# Altium integrated library ATK-CLMP135-CORE-V1.0.IntLib: 16 symbols
Pins are listed as number, name and electrical type; pins without a type are passive.

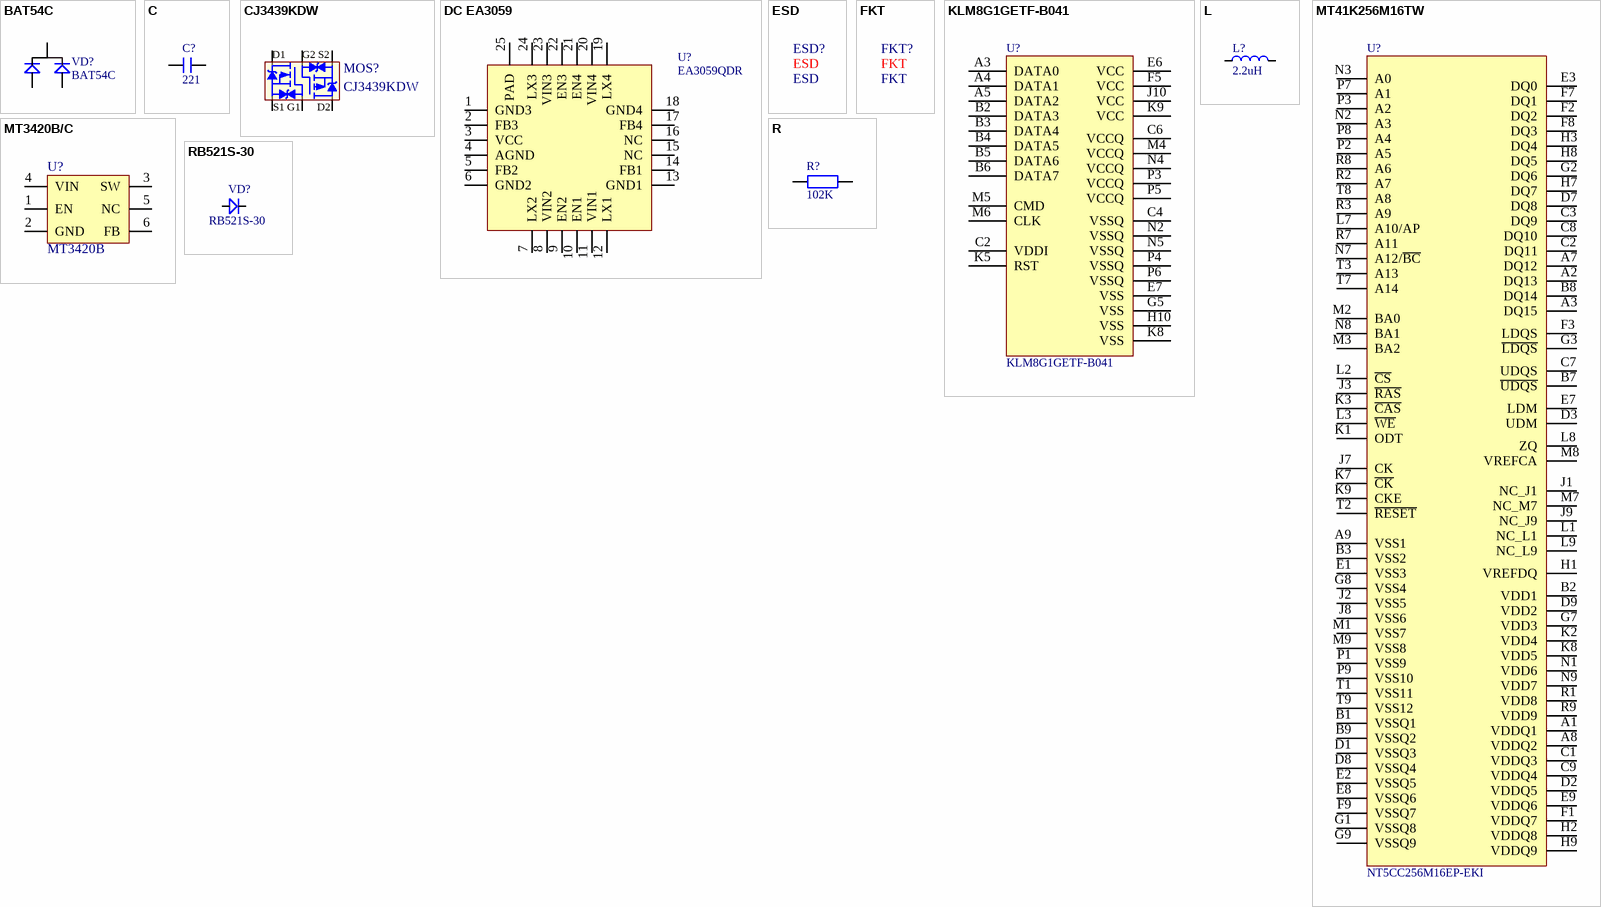
[diagram p0: symbols BAT54C to RB521S-30]

## BAT54C
designator VD?
肖特基二极管（双）
footprint SOT23-3L (3x1.3x1mm(长宽高))
pins: 1, 2, 3

## C
designator C?, comment 221
无极性贴片电容; 版权归属: 正点原子; BOM名称: 无极性贴片电容; 学习资源: www.openedv.com
footprint C 0402 (无极性贴片电容)
footprint C 0603 (无极性贴片电容)
pins: 1, 2

## CJ3439KDW
designator MOS?
P+N  ±20V +0.45A 0.8Ω@1.8V -0.5A 0.95Ω@-1.8V; BOM名称: MOS管; 版权归属: 正点原子; 学习资源: www.openedv.com
footprint SOT363-6L (2.0x2.1x1.1mm(长宽高))
pins: 1 S1, 2 G1, 3 D2, 4 S2, 5 G2, 6 D1

## DC EA3059
designator U?, comment EA3059QDR
DC降压芯片
footprint QFN24 4X4_L (QFN, 24-Leads, Body 4.1x4.1mm (max), Pitch 0.50mm, IPC Medium Density)
pins: 1 GND3, 2 FB3, 3 VCC, 4 AGND, 5 FB2, 6 GND2, 7 LX2, 8 VIN2, 9 EN2, 10 EN1, 11 VIN1, 12 LX1, 13 GND1, 14 FB1, 15 NC, 16 NC, 17 FB4, 18 GND4, 19 LX4, 20 VIN4, 21 EN4, 22 EN3, 23 VIN3, 24 LX3, 25 PAD

## ESD
designator ESD?
防静电; BOM名称: 散热片; 版权归属: 正点原子; 学习资源: www.openedv.com
footprint ESD

## FKT
designator FKT?
可回收; BOM名称: 散热片; 版权归属: 正点原子; 学习资源: www.openedv.com
footprint FKT

## KLM8G1GETF-B041
designator U?
8GB EMMC存储芯片
footprint BGA153  EMMC (BGA, 153-Leads, Body 13.0x11.5mm,  Pitch 0.50mm)
pins: A3 DATA0, A4 DATA1, A5 DATA2, B2 DATA3, B3 DATA4, B4 DATA5, B5 DATA6, B6 DATA7, C2 VDDI, C4 VSSQ, C6 VCCQ, E6 VCC, E7 VSS, F5 VCC, G5 VSS, H10 VSS, J10 VCC, K5 RST, K8 VSS, K9 VCC, M4 VCCQ, M5 CMD, M6 CLK, N2 VSSQ, N4 VCCQ, N5 VSSQ, P3 VCCQ, P4 VSSQ, P5 VCCQ, P6 VSSQ

## L
designator L?, comment 2.2uH
小功率贴片电感磁珠; 版权归属: 正点原子; BOM名称: 小功率贴片电感; 学习资源: www.openedv.com
footprint L_2520
pins: 1, 2

## MT41K256M16TW
designator U?, comment NT5CC256M16EP-EKI
footprint BGA96 (BGA, 96-Leads, Body 8.00x14.00mmx1.20mm, Pitch 0.80mm)
pins: A1 VDDQ1, A2 DQ13, A3 DQ15, A7 DQ12, A8 VDDQ2, A9 VSS1, B1 VSSQ1, B2 VDD1, B3 VSS2, B7 ~{UDQS}, B8 DQ14, B9 VSSQ2, C1 VDDQ3, C2 DQ11, C3 DQ9, C7 UDQS, C8 DQ10, C9 VDDQ4, D1 VSSQ3, D2 VDDQ5, D3 UDM, D7 DQ8, D8 VSSQ4, D9 VDD2, E1 VSS3, E2 VSSQ5, E3 DQ0, E7 LDM, E8 VSSQ6, E9 VDDQ6, F1 VDDQ7, F2 DQ2, F3 LDQS, F7 DQ1, F8 DQ3, F9 VSSQ7, G1 VSSQ8, G2 DQ6, G3 ~{LDQS}, G7 VDD3, G8 VSS4, G9 VSSQ9, H1 VREFDQ, H2 VDDQ8, H3 DQ4, H7 DQ7, H8 DQ5, H9 VDDQ9, J1 NC_J1, J2 VSS5, J3 ~{RAS}, J7 CK, J8 VSS6, J9 NC_J9, K1 ODT, K2 VDD4, K3 ~{CAS}, K7 ~{CK}, K8 VDD5, K9 CKE, L1 NC_L1, L2 ~{CS}, L3 ~{WE}, L7 A10/AP, L8 ZQ, L9 NC_L9, M1 VSS7, M2 BA0, M3 BA2, M7 NC_M7, M8 VREFCA, M9 VSS8, N1 VDD6, N2 A3, N3 A0, N7 A12/~{BC}, N8 BA1, N9 VDD7, P1 VSS9, P2 A5, P3 A2, P7 A1, P8 A4, P9 VSS10, R1 VDD8, R2 A7, R3 A9, R7 A11, R8 A6, R9 VDD9, T1 VSS11, T2 ~{RESET}, T3 A13, T7 A14, T8 A8, T9 VSS12

## MT3420B/C
designator U?, comment MT3420B
同步降压 2.3-6V 2A 1.5MHz Vr=0.6V; 版权归属: 正点原子; BOM名称: 芯片; 学习资源: www.openedv.com
footprint SOT23-6L (3x1.6x1.1mm(长宽高))
pins: 1 EN, 2 GND, 3 SW, 4 VIN, 5 NC, 6 FB

## R
designator R?, comment 102K
贴片电阻; 版权归属: 正点原子; BOM名称: 贴片电阻; 学习资源: www.openedv.com
footprint R 0402 (1/16W贴片电阻)
footprint R 0603 (1/10W贴片电阻)
pins: 1, 2

## RB521S-30
designator VD?
SOD123封装二极管; BOM名称: 高速开关二极管; 版权归属: 正点原子; 学习资源: www.openedv.com
footprint SOD-523 (1.2x0.8X0.6mm（长宽高，不包括引脚）)
pins: 1 A, 2 K

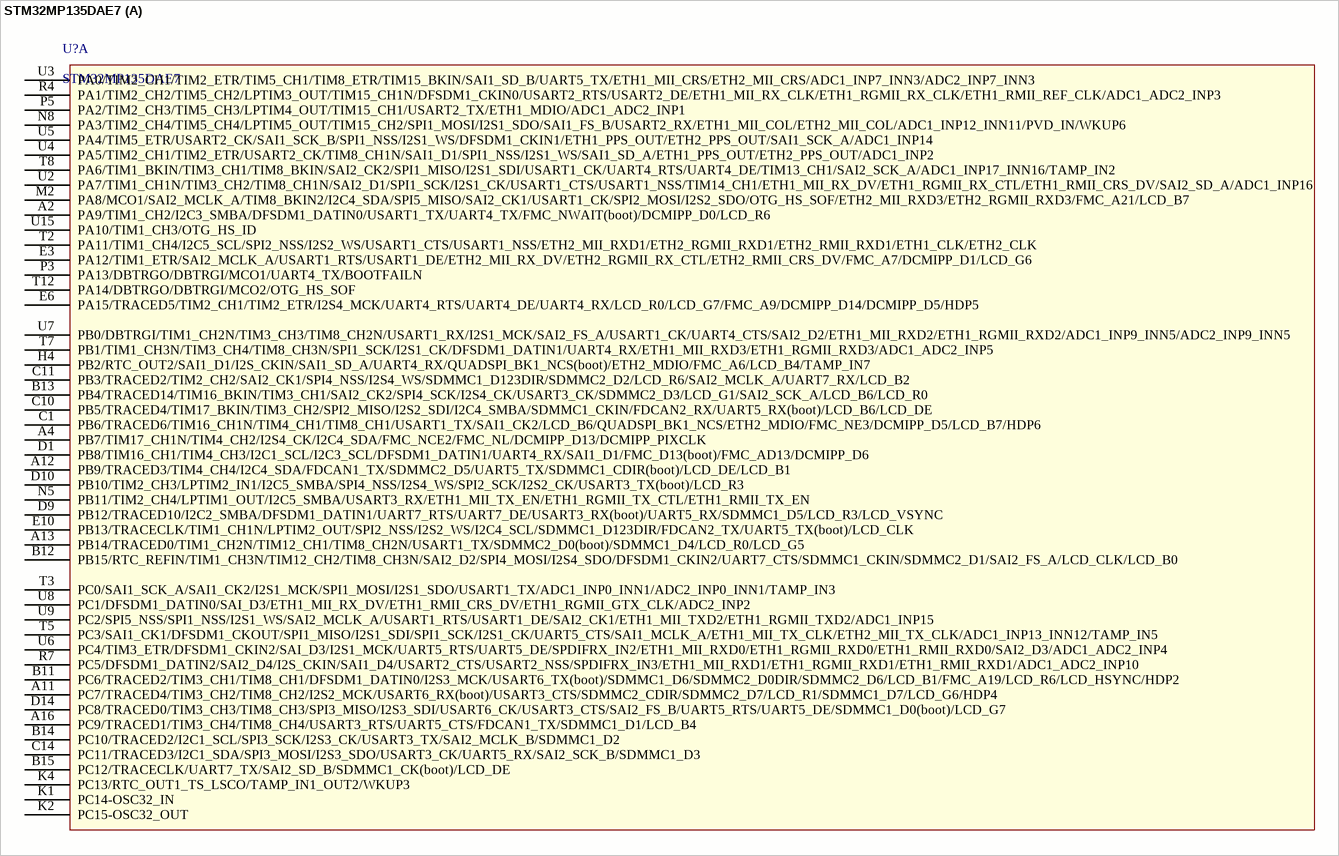
[diagram p1: symbol STM32MP135DAE7]

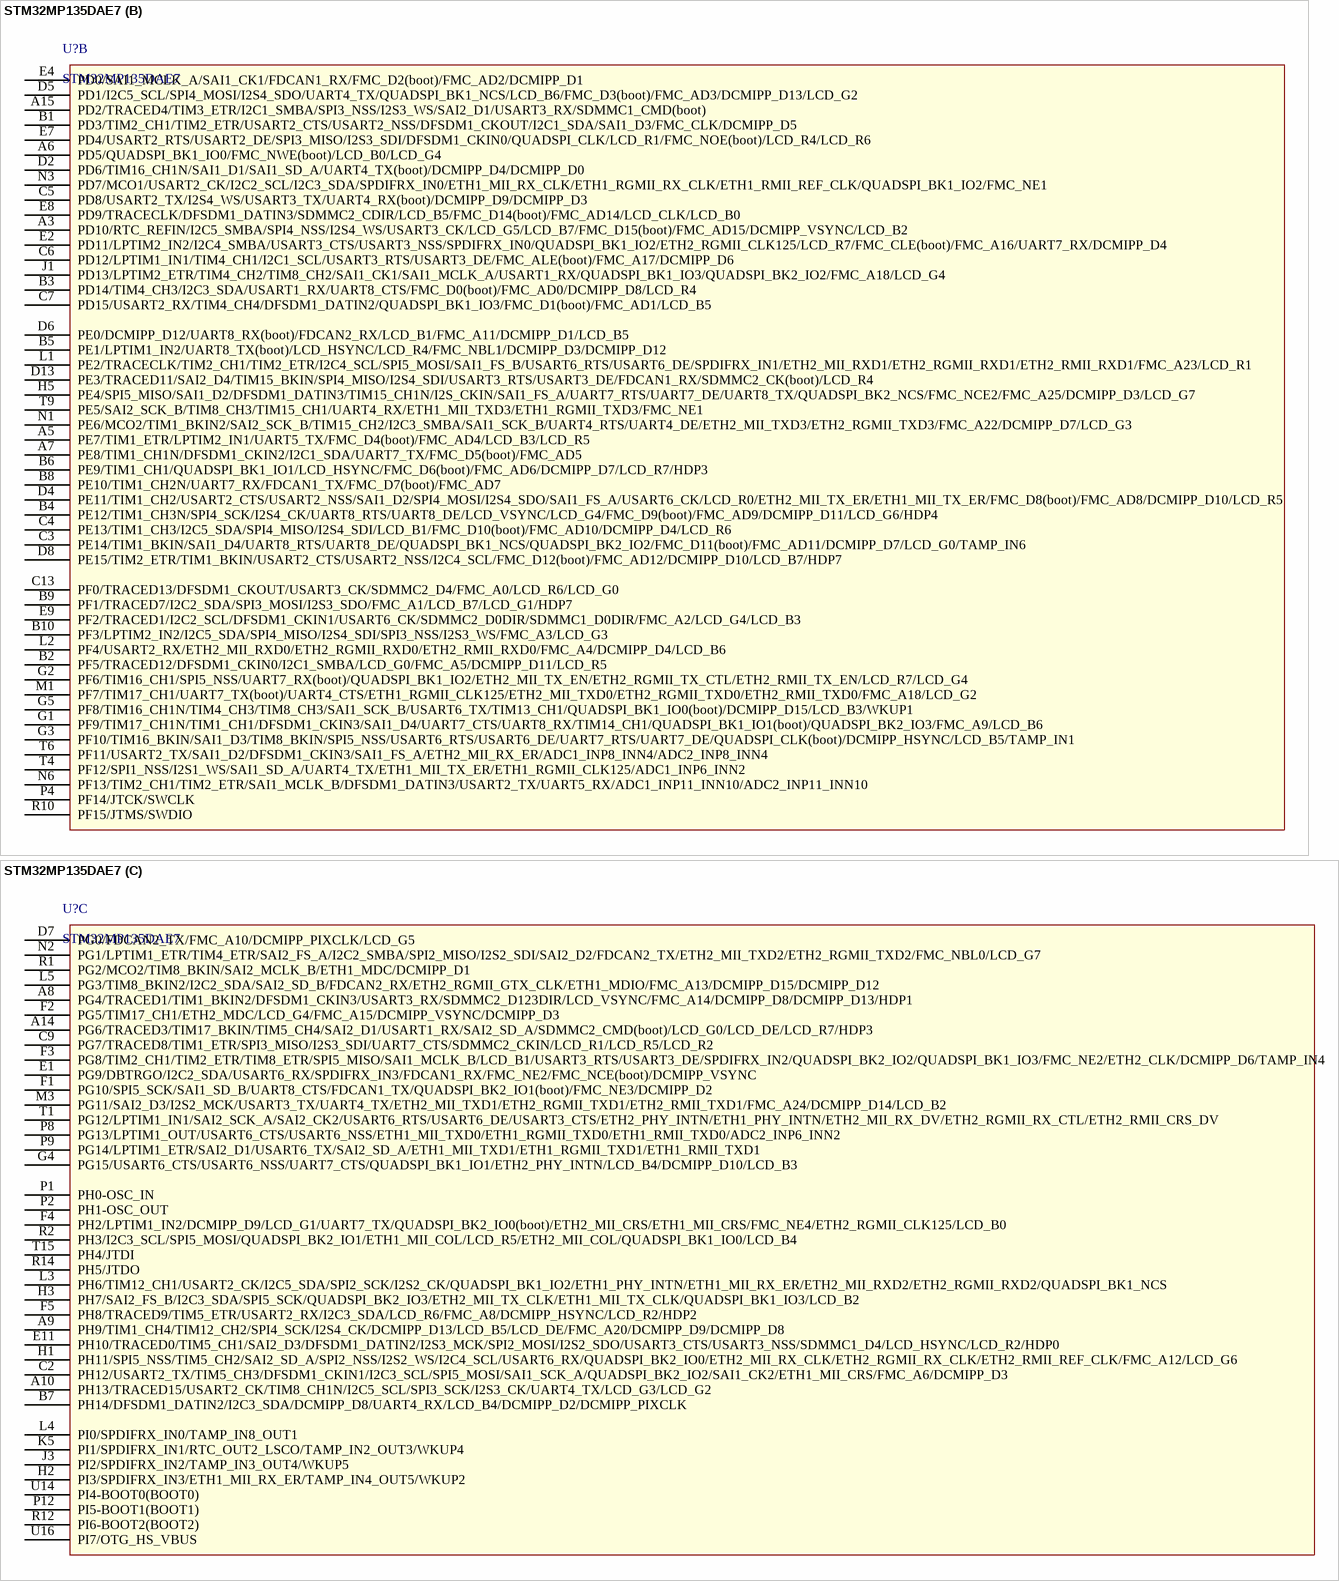
[diagram p2: symbol STM32MP135DAE7]

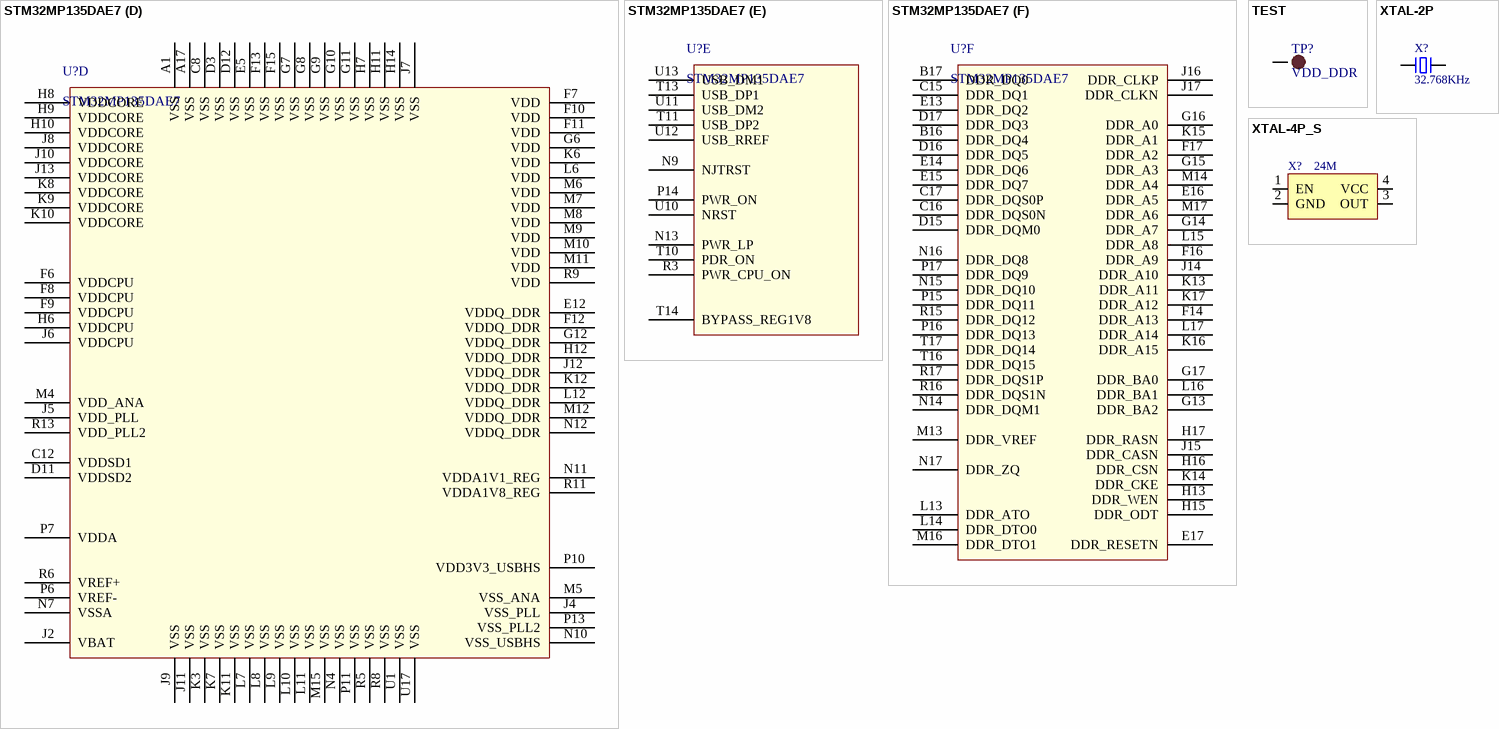
[diagram p3: symbols STM32MP135DAE7 to XTAL-4P_S]

## STM32MP135DAE7
designator U?
footprint LFBGA289_14X14_PITCH08 (STM32MP135DAE7)
part A pins: A2 PA9/TIM1_CH2/I2C3_SMBA/DFSDM1_DATIN0/USART1_TX/UART4_TX/FMC_NWAIT(boot)/DCMIPP_D0/LCD_R6, A4 PB7/TIM17_CH1N/TIM4_CH2/I2S4_CK/I2C4_SDA/FMC_NCE2/FMC_NL/DCMIPP_D13/DCMIPP_PIXCLK, A11 PC7/TRACED4/TIM3_CH2/TIM8_CH2/I2S2_MCK/USART6_RX(boot)/USART3_CTS/SDMMC2_CDIR/SDMMC2_D7/LCD_R1/SDMMC1_D7/LCD_G6/HDP4, A12 PB9/TRACED3/TIM4_CH4/I2C4_SDA/FDCAN1_TX/SDMMC2_D5/UART5_TX/SDMMC1_CDIR(boot)/LCD_DE/LCD_B1, A13 PB14/TRACED0/TIM1_CH2N/TIM12_CH1/TIM8_CH2N/USART1_TX/SDMMC2_D0(boot)/SDMMC1_D4/LCD_R0/LCD_G5, A16 PC9/TRACED1/TIM3_CH4/TIM8_CH4/USART3_RTS/UART5_CTS/FDCAN1_TX/SDMMC1_D1/LCD_B4, B11 PC6/TRACED2/TIM3_CH1/TIM8_CH1/DFSDM1_DATIN0/I2S3_MCK/USART6_TX(boot)/SDMMC1_D6/SDMMC2_D0DIR/SDMMC2_D6/LCD_B1/FMC_A19/LCD_R6/LCD_HSYNC/HDP2, B12 PB15/RTC_REFIN/TIM1_CH3N/TIM12_CH2/TIM8_CH3N/SAI2_D2/SPI4_MOSI/I2S4_SDO/DFSDM1_CKIN2/UART7_CTS/SDMMC1_CKIN/SDMMC2_D1/SAI2_FS_A/LCD_CLK/LCD_B0, B13 PB4/TRACED14/TIM16_BKIN/TIM3_CH1/SAI2_CK2/SPI4_SCK/I2S4_CK/USART3_CK/SDMMC2_D3/LCD_G1/SAI2_SCK_A/LCD_B6/LCD_R0, B14 PC10/TRACED2/I2C1_SCL/SPI3_SCK/I2S3_CK/USART3_TX/SAI2_MCLK_B/SDMMC1_D2, B15 PC12/TRACECLK/UART7_TX/SAI2_SD_B/SDMMC1_CK(boot)/LCD_DE, C1 PB6/TRACED6/TIM16_CH1N/TIM4_CH1/TIM8_CH1/USART1_TX/SAI1_CK2/LCD_B6/QUADSPI_BK1_NCS/ETH2_MDIO/FMC_NE3/DCMIPP_D5/LCD_B7/HDP6, C10 PB5/TRACED4/TIM17_BKIN/TIM3_CH2/SPI2_MISO/I2S2_SDI/I2C4_SMBA/SDMMC1_CKIN/FDCAN2_RX/UART5_RX(boot)/LCD_B6/LCD_DE, C11 PB3/TRACED2/TIM2_CH2/SAI2_CK1/SPI4_NSS/I2S4_WS/SDMMC1_D123DIR/SDMMC2_D2/LCD_R6/SAI2_MCLK_A/UART7_RX/LCD_B2, C14 PC11/TRACED3/I2C1_SDA/SPI3_MOSI/I2S3_SDO/USART3_CK/UART5_RX/SAI2_SCK_B/SDMMC1_D3, D1 PB8/TIM16_CH1/TIM4_CH3/I2C1_SCL/I2C3_SCL/DFSDM1_DATIN1/UART4_RX/SAI1_D1/FMC_D13(boot)/FMC_AD13/DCMIPP_D6, D9 PB12/TRACED10/I2C2_SMBA/DFSDM1_DATIN1/UART7_RTS/UART7_DE/USART3_RX(boot)/UART5_RX/SDMMC1_D5/LCD_R3/LCD_VSYNC, D10 PB10/TIM2_CH3/LPTIM2_IN1/I2C5_SMBA/SPI4_NSS/I2S4_WS/SPI2_SCK/I2S2_CK/USART3_TX(boot)/LCD_R3, D14 PC8/TRACED0/TIM3_CH3/TIM8_CH3/SPI3_MISO/I2S3_SDI/USART6_CK/USART3_CTS/SAI2_FS_B/UART5_RTS/UART5_DE/SDMMC1_D0(boot)/LCD_G7, E3 PA12/TIM1_ETR/SAI2_MCLK_A/USART1_RTS/USART1_DE/ETH2_MII_RX_DV/ETH2_RGMII_RX_CTL/ETH2_RMII_CRS_DV/FMC_A7/DCMIPP_D1/LCD_G6, E6 PA15/TRACED5/TIM2_CH1/TIM2_ETR/I2S4_MCK/UART4_RTS/UART4_DE/UART4_RX/LCD_R0/LCD_G7/FMC_A9/DCMIPP_D14/DCMIPP_D5/HDP5, E10 PB13/TRACECLK/TIM1_CH1N/LPTIM2_OUT/SPI2_NSS/I2S2_WS/I2C4_SCL/SDMMC1_D123DIR/FDCAN2_TX/UART5_TX(boot)/LCD_CLK, H4 PB2/RTC_OUT2/SAI1_D1/I2S_CKIN/SAI1_SD_A/UART4_RX/QUADSPI_BK1_NCS(boot)/ETH2_MDIO/FMC_A6/LCD_B4/TAMP_IN7, K1 PC14-OSC32_IN, K2 PC15-OSC32_OUT, K4 PC13/RTC_OUT1_TS_LSCO/TAMP_IN1_OUT2/WKUP3, M2 PA8/MCO1/SAI2_MCLK_A/TIM8_BKIN2/I2C4_SDA/SPI5_MISO/SAI2_CK1/USART1_CK/SPI2_MOSI/I2S2_SDO/OTG_HS_SOF/ETH2_MII_RXD3/ETH2_RGMII_RXD3/FMC_A21/LCD_B7, N5 PB11/TIM2_CH4/LPTIM1_OUT/I2C5_SMBA/USART3_RX/ETH1_MII_TX_EN/ETH1_RGMII_TX_CTL/ETH1_RMII_TX_EN, N8 PA3/TIM2_CH4/TIM5_CH4/LPTIM5_OUT/TIM15_CH2/SPI1_MOSI/I2S1_SDO/SAI1_FS_B/USART2_RX/ETH1_MII_COL/ETH2_MII_COL/ADC1_INP12_INN11/PVD_IN/WKUP6, P3 PA13/DBTRGO/DBTRGI/MCO1/UART4_TX/BOOTFAILN, P5 PA2/TIM2_CH3/TIM5_CH3/LPTIM4_OUT/TIM15_CH1/USART2_TX/ETH1_MDIO/ADC1_ADC2_INP1, R4 PA1/TIM2_CH2/TIM5_CH2/LPTIM3_OUT/TIM15_CH1N/DFSDM1_CKIN0/USART2_RTS/USART2_DE/ETH1_MII_RX_CLK/ETH1_RGMII_RX_CLK/ETH1_RMII_REF_CLK/ADC1_ADC2_INP3, R7 PC5/DFSDM1_DATIN2/SAI2_D4/I2S_CKIN/SAI1_D4/USART2_CTS/USART2_NSS/SPDIFRX_IN3/ETH1_MII_RXD1/ETH1_RGMII_RXD1/ETH1_RMII_RXD1/ADC1_ADC2_INP10, T2 PA11/TIM1_CH4/I2C5_SCL/SPI2_NSS/I2S2_WS/USART1_CTS/USART1_NSS/ETH2_MII_RXD1/ETH2_RGMII_RXD1/ETH2_RMII_RXD1/ETH1_CLK/ETH2_CLK, T3 PC0/SAI1_SCK_A/SAI1_CK2/I2S1_MCK/SPI1_MOSI/I2S1_SDO/USART1_TX/ADC1_INP0_INN1/ADC2_INP0_INN1/TAMP_IN3, T5 PC3/SAI1_CK1/DFSDM1_CKOUT/SPI1_MISO/I2S1_SDI/SPI1_SCK/I2S1_CK/UART5_CTS/SAI1_MCLK_A/ETH1_MII_TX_CLK/ETH2_MII_TX_CLK/ADC1_INP13_INN12/TAMP_IN5, T7 PB1/TIM1_CH3N/TIM3_CH4/TIM8_CH3N/SPI1_SCK/I2S1_CK/DFSDM1_DATIN1/UART4_RX/ETH1_MII_RXD3/ETH1_RGMII_RXD3/ADC1_ADC2_INP5, T8 PA6/TIM1_BKIN/TIM3_CH1/TIM8_BKIN/SAI2_CK2/SPI1_MISO/I2S1_SDI/USART1_CK/UART4_RTS/UART4_DE/TIM13_CH1/SAI2_SCK_A/ADC1_INP17_INN16/TAMP_IN2, T12 PA14/DBTRGO/DBTRGI/MCO2/OTG_HS_SOF, U2 PA7/TIM1_CH1N/TIM3_CH2/TIM8_CH1N/SAI2_D1/SPI1_SCK/I2S1_CK/USART1_CTS/USART1_NSS/TIM14_CH1/ETH1_MII_RX_DV/ETH1_RGMII_RX_CTL/ETH1_RMII_CRS_DV/SAI2_SD_A/ADC1_INP16, U3 PA0/TIM2_CH1/TIM2_ETR/TIM5_CH1/TIM8_ETR/TIM15_BKIN/SAI1_SD_B/UART5_TX/ETH1_MII_CRS/ETH2_MII_CRS/ADC1_INP7_INN3/ADC2_INP7_INN3, U4 PA5/TIM2_CH1/TIM2_ETR/USART2_CK/TIM8_CH1N/SAI1_D1/SPI1_NSS/I2S1_WS/SAI1_SD_A/ETH1_PPS_OUT/ETH2_PPS_OUT/ADC1_INP2, U5 PA4/TIM5_ETR/USART2_CK/SAI1_SCK_B/SPI1_NSS/I2S1_WS/DFSDM1_CKIN1/ETH1_PPS_OUT/ETH2_PPS_OUT/SAI1_SCK_A/ADC1_INP14, U6 PC4/TIM3_ETR/DFSDM1_CKIN2/SAI_D3/I2S1_MCK/UART5_RTS/UART5_DE/SPDIFRX_IN2/ETH1_MII_RXD0/ETH1_RGMII_RXD0/ETH1_RMII_RXD0/SAI2_D3/ADC1_ADC2_INP4, U7 PB0/DBTRGI/TIM1_CH2N/TIM3_CH3/TIM8_CH2N/USART1_RX/I2S1_MCK/SAI2_FS_A/USART1_CK/UART4_CTS/SAI2_D2/ETH1_MII_RXD2/ETH1_RGMII_RXD2/ADC1_INP9_INN5/ADC2_INP9_INN5, U8 PC1/DFSDM1_DATIN0/SAI_D3/ETH1_MII_RX_DV/ETH1_RMII_CRS_DV/ETH1_RGMII_GTX_CLK/ADC2_INP2, U9 PC2/SPI5_NSS/SPI1_NSS/I2S1_WS/SAI2_MCLK_A/USART1_RTS/USART1_DE/SAI2_CK1/ETH1_MII_TXD2/ETH1_RGMII_TXD2/ADC1_INP15, U15 PA10/TIM1_CH3/OTG_HS_ID
part B pins: A3 PD10/RTC_REFIN/I2C5_SMBA/SPI4_NSS/I2S4_WS/USART3_CK/LCD_G5/LCD_B7/FMC_D15(boot)/FMC_AD15/DCMIPP_VSYNC/LCD_B2, A5 PE7/TIM1_ETR/LPTIM2_IN1/UART5_TX/FMC_D4(boot)/FMC_AD4/LCD_B3/LCD_R5, A6 PD5/QUADSPI_BK1_IO0/FMC_NWE(boot)/LCD_B0/LCD_G4, A7 PE8/TIM1_CH1N/DFSDM1_CKIN2/I2C1_SDA/UART7_TX/FMC_D5(boot)/FMC_AD5, A15 PD2/TRACED4/TIM3_ETR/I2C1_SMBA/SPI3_NSS/I2S3_WS/SAI2_D1/USART3_RX/SDMMC1_CMD(boot), B1 PD3/TIM2_CH1/TIM2_ETR/USART2_CTS/USART2_NSS/DFSDM1_CKOUT/I2C1_SDA/SAI1_D3/FMC_CLK/DCMIPP_D5, B2 PF5/TRACED12/DFSDM1_CKIN0/I2C1_SMBA/LCD_G0/FMC_A5/DCMIPP_D11/LCD_R5, B3 PD14/TIM4_CH3/I2C3_SDA/USART1_RX/UART8_CTS/FMC_D0(boot)/FMC_AD0/DCMIPP_D8/LCD_R4, B4 PE12/TIM1_CH3N/SPI4_SCK/I2S4_CK/UART8_RTS/UART8_DE/LCD_VSYNC/LCD_G4/FMC_D9(boot)/FMC_AD9/DCMIPP_D11/LCD_G6/HDP4, B5 PE1/LPTIM1_IN2/UART8_TX(boot)/LCD_HSYNC/LCD_R4/FMC_NBL1/DCMIPP_D3/DCMIPP_D12, B6 PE9/TIM1_CH1/QUADSPI_BK1_IO1/LCD_HSYNC/FMC_D6(boot)/FMC_AD6/DCMIPP_D7/LCD_R7/HDP3, B8 PE10/TIM1_CH2N/UART7_RX/FDCAN1_TX/FMC_D7(boot)/FMC_AD7, B9 PF1/TRACED7/I2C2_SDA/SPI3_MOSI/I2S3_SDO/FMC_A1/LCD_B7/LCD_G1/HDP7, B10 PF3/LPTIM2_IN2/I2C5_SDA/SPI4_MISO/I2S4_SDI/SPI3_NSS/I2S3_WS/FMC_A3/LCD_G3, C3 PE14/TIM1_BKIN/SAI1_D4/UART8_RTS/UART8_DE/QUADSPI_BK1_NCS/QUADSPI_BK2_IO2/FMC_D11(boot)/FMC_AD11/DCMIPP_D7/LCD_G0/TAMP_IN6, C4 PE13/TIM1_CH3/I2C5_SDA/SPI4_MISO/I2S4_SDI/LCD_B1/FMC_D10(boot)/FMC_AD10/DCMIPP_D4/LCD_R6, C5 PD8/USART2_TX/I2S4_WS/USART3_TX/UART4_RX(boot)/DCMIPP_D9/DCMIPP_D3, C6 PD12/LPTIM1_IN1/TIM4_CH1/I2C1_SCL/USART3_RTS/USART3_DE/FMC_ALE(boot)/FMC_A17/DCMIPP_D6, C7 PD15/USART2_RX/TIM4_CH4/DFSDM1_DATIN2/QUADSPI_BK1_IO3/FMC_D1(boot)/FMC_AD1/LCD_B5, C13 PF0/TRACED13/DFSDM1_CKOUT/USART3_CK/SDMMC2_D4/FMC_A0/LCD_R6/LCD_G0, D2 PD6/TIM16_CH1N/SAI1_D1/SAI1_SD_A/UART4_TX(boot)/DCMIPP_D4/DCMIPP_D0, D4 PE11/TIM1_CH2/USART2_CTS/USART2_NSS/SAI1_D2/SPI4_MOSI/I2S4_SDO/SAI1_FS_A/USART6_CK/LCD_R0/ETH2_MII_TX_ER/ETH1_MII_TX_ER/FMC_D8(boot)/FMC_AD8/DCMIPP_D10/LCD_R5, D5 PD1/I2C5_SCL/SPI4_MOSI/I2S4_SDO/UART4_TX/QUADSPI_BK1_NCS/LCD_B6/FMC_D3(boot)/FMC_AD3/DCMIPP_D13/LCD_G2, D6 PE0/DCMIPP_D12/UART8_RX(boot)/FDCAN2_RX/LCD_B1/FMC_A11/DCMIPP_D1/LCD_B5, D8 PE15/TIM2_ETR/TIM1_BKIN/USART2_CTS/USART2_NSS/I2C4_SCL/FMC_D12(boot)/FMC_AD12/DCMIPP_D10/LCD_B7/HDP7, D13 PE3/TRACED11/SAI2_D4/TIM15_BKIN/SPI4_MISO/I2S4_SDI/USART3_RTS/USART3_DE/FDCAN1_RX/SDMMC2_CK(boot)/LCD_R4, E2 PD11/LPTIM2_IN2/I2C4_SMBA/USART3_CTS/USART3_NSS/SPDIFRX_IN0/QUADSPI_BK1_IO2/ETH2_RGMII_CLK125/LCD_R7/FMC_CLE(boot)/FMC_A16/UART7_RX/DCMIPP_D4, E4 PD0/SAI1_MCLK_A/SAI1_CK1/FDCAN1_RX/FMC_D2(boot)/FMC_AD2/DCMIPP_D1, E7 PD4/USART2_RTS/USART2_DE/SPI3_MISO/I2S3_SDI/DFSDM1_CKIN0/QUADSPI_CLK/LCD_R1/FMC_NOE(boot)/LCD_R4/LCD_R6, E8 PD9/TRACECLK/DFSDM1_DATIN3/SDMMC2_CDIR/LCD_B5/FMC_D14(boot)/FMC_AD14/LCD_CLK/LCD_B0, E9 PF2/TRACED1/I2C2_SCL/DFSDM1_CKIN1/USART6_CK/SDMMC2_D0DIR/SDMMC1_D0DIR/FMC_A2/LCD_G4/LCD_B3, G1 PF9/TIM17_CH1N/TIM1_CH1/DFSDM1_CKIN3/SAI1_D4/UART7_CTS/UART8_RX/TIM14_CH1/QUADSPI_BK1_IO1(boot)/QUADSPI_BK2_IO3/FMC_A9/LCD_B6, G2 PF6/TIM16_CH1/SPI5_NSS/UART7_RX(boot)/QUADSPI_BK1_IO2/ETH2_MII_TX_EN/ETH2_RGMII_TX_CTL/ETH2_RMII_TX_EN/LCD_R7/LCD_G4, G3 PF10/TIM16_BKIN/SAI1_D3/TIM8_BKIN/SPI5_NSS/USART6_RTS/USART6_DE/UART7_RTS/UART7_DE/QUADSPI_CLK(boot)/DCMIPP_HSYNC/LCD_B5/TAMP_IN1, G5 PF8/TIM16_CH1N/TIM4_CH3/TIM8_CH3/SAI1_SCK_B/USART6_TX/TIM13_CH1/QUADSPI_BK1_IO0(boot)/DCMIPP_D15/LCD_B3/WKUP1, H5 PE4/SPI5_MISO/SAI1_D2/DFSDM1_DATIN3/TIM15_CH1N/I2S_CKIN/SAI1_FS_A/UART7_RTS/UART7_DE/UART8_TX/QUADSPI_BK2_NCS/FMC_NCE2/FMC_A25/DCMIPP_D3/LCD_G7, J1 PD13/LPTIM2_ETR/TIM4_CH2/TIM8_CH2/SAI1_CK1/SAI1_MCLK_A/USART1_RX/QUADSPI_BK1_IO3/QUADSPI_BK2_IO2/FMC_A18/LCD_G4, L1 PE2/TRACECLK/TIM2_CH1/TIM2_ETR/I2C4_SCL/SPI5_MOSI/SAI1_FS_B/USART6_RTS/USART6_DE/SPDIFRX_IN1/ETH2_MII_RXD1/ETH2_RGMII_RXD1/ETH2_RMII_RXD1/FMC_A23/LCD_R1, L2 PF4/USART2_RX/ETH2_MII_RXD0/ETH2_RGMII_RXD0/ETH2_RMII_RXD0/FMC_A4/DCMIPP_D4/LCD_B6, M1 PF7/TIM17_CH1/UART7_TX(boot)/UART4_CTS/ETH1_RGMII_CLK125/ETH2_MII_TXD0/ETH2_RGMII_TXD0/ETH2_RMII_TXD0/FMC_A18/LCD_G2, N1 PE6/MCO2/TIM1_BKIN2/SAI2_SCK_B/TIM15_CH2/I2C3_SMBA/SAI1_SCK_B/UART4_RTS/UART4_DE/ETH2_MII_TXD3/ETH2_RGMII_TXD3/FMC_A22/DCMIPP_D7/LCD_G3, N3 PD7/MCO1/USART2_CK/I2C2_SCL/I2C3_SDA/SPDIFRX_IN0/ETH1_MII_RX_CLK/ETH1_RGMII_RX_CLK/ETH1_RMII_REF_CLK/QUADSPI_BK1_IO2/FMC_NE1, N6 PF13/TIM2_CH1/TIM2_ETR/SAI1_MCLK_B/DFSDM1_DATIN3/USART2_TX/UART5_RX/ADC1_INP11_INN10/ADC2_INP11_INN10, P4 PF14/JTCK/SWCLK, R10 PF15/JTMS/SWDIO, T4 PF12/SPI1_NSS/I2S1_WS/SAI1_SD_A/UART4_TX/ETH1_MII_TX_ER/ETH1_RGMII_CLK125/ADC1_INP6_INN2, T6 PF11/USART2_TX/SAI1_D2/DFSDM1_CKIN3/SAI1_FS_A/ETH2_MII_RX_ER/ADC1_INP8_INN4/ADC2_INP8_INN4, T9 PE5/SAI2_SCK_B/TIM8_CH3/TIM15_CH1/UART4_RX/ETH1_MII_TXD3/ETH1_RGMII_TXD3/FMC_NE1
part C pins: A8 PG4/TRACED1/TIM1_BKIN2/DFSDM1_CKIN3/USART3_RX/SDMMC2_D123DIR/LCD_VSYNC/FMC_A14/DCMIPP_D8/DCMIPP_D13/HDP1, A9 PH9/TIM1_CH4/TIM12_CH2/SPI4_SCK/I2S4_CK/DCMIPP_D13/LCD_B5/LCD_DE/FMC_A20/DCMIPP_D9/DCMIPP_D8, A10 PH13/TRACED15/USART2_CK/TIM8_CH1N/I2C5_SCL/SPI3_SCK/I2S3_CK/UART4_TX/LCD_G3/LCD_G2, A14 PG6/TRACED3/TIM17_BKIN/TIM5_CH4/SAI2_D1/USART1_RX/SAI2_SD_A/SDMMC2_CMD(boot)/LCD_G0/LCD_DE/LCD_R7/HDP3, B7 PH14/DFSDM1_DATIN2/I2C3_SDA/DCMIPP_D8/UART4_RX/LCD_B4/DCMIPP_D2/DCMIPP_PIXCLK, C2 PH12/USART2_TX/TIM5_CH3/DFSDM1_CKIN1/I2C3_SCL/SPI5_MOSI/SAI1_SCK_A/QUADSPI_BK2_IO2/SAI1_CK2/ETH1_MII_CRS/FMC_A6/DCMIPP_D3, C9 PG7/TRACED8/TIM1_ETR/SPI3_MISO/I2S3_SDI/UART7_CTS/SDMMC2_CKIN/LCD_R1/LCD_R5/LCD_R2, D7 PG0/FDCAN2_TX/FMC_A10/DCMIPP_PIXCLK/LCD_G5, E1 PG9/DBTRGO/I2C2_SDA/USART6_RX/SPDIFRX_IN3/FDCAN1_RX/FMC_NE2/FMC_NCE(boot)/DCMIPP_VSYNC, E11 PH10/TRACED0/TIM5_CH1/SAI2_D3/DFSDM1_DATIN2/I2S3_MCK/SPI2_MOSI/I2S2_SDO/USART3_CTS/USART3_NSS/SDMMC1_D4/LCD_HSYNC/LCD_R2/HDP0, F1 PG10/SPI5_SCK/SAI1_SD_B/UART8_CTS/FDCAN1_TX/QUADSPI_BK2_IO1(boot)/FMC_NE3/DCMIPP_D2, F2 PG5/TIM17_CH1/ETH2_MDC/LCD_G4/FMC_A15/DCMIPP_VSYNC/DCMIPP_D3, F3 PG8/TIM2_CH1/TIM2_ETR/TIM8_ETR/SPI5_MISO/SAI1_MCLK_B/LCD_B1/USART3_RTS/USART3_DE/SPDIFRX_IN2/QUADSPI_BK2_IO2/QUADSPI_BK1_IO3/FMC_NE2/ETH2_CLK/DCMIPP_D6/TAMP_IN4, F4 PH2/LPTIM1_IN2/DCMIPP_D9/LCD_G1/UART7_TX/QUADSPI_BK2_IO0(boot)/ETH2_MII_CRS/ETH1_MII_CRS/FMC_NE4/ETH2_RGMII_CLK125/LCD_B0, F5 PH8/TRACED9/TIM5_ETR/USART2_RX/I2C3_SDA/LCD_R6/FMC_A8/DCMIPP_HSYNC/LCD_R2/HDP2, G4 PG15/USART6_CTS/USART6_NSS/UART7_CTS/QUADSPI_BK1_IO1/ETH2_PHY_INTN/LCD_B4/DCMIPP_D10/LCD_B3, H1 PH11/SPI5_NSS/TIM5_CH2/SAI2_SD_A/SPI2_NSS/I2S2_WS/I2C4_SCL/USART6_RX/QUADSPI_BK2_IO0/ETH2_MII_RX_CLK/ETH2_RGMII_RX_CLK/ETH2_RMII_REF_CLK/FMC_A12/LCD_G6, H2 PI3/SPDIFRX_IN3/ETH1_MII_RX_ER/TAMP_IN4_OUT5/WKUP2, H3 PH7/SAI2_FS_B/I2C3_SDA/SPI5_SCK/QUADSPI_BK2_IO3/ETH2_MII_TX_CLK/ETH1_MII_TX_CLK/QUADSPI_BK1_IO3/LCD_B2, J3 PI2/SPDIFRX_IN2/TAMP_IN3_OUT4/WKUP5, K5 PI1/SPDIFRX_IN1/RTC_OUT2_LSCO/TAMP_IN2_OUT3/WKUP4, L3 PH6/TIM12_CH1/USART2_CK/I2C5_SDA/SPI2_SCK/I2S2_CK/QUADSPI_BK1_IO2/ETH1_PHY_INTN/ETH1_MII_RX_ER/ETH2_MII_RXD2/ETH2_RGMII_RXD2/QUADSPI_BK1_NCS, L4 PI0/SPDIFRX_IN0/TAMP_IN8_OUT1, L5 PG3/TIM8_BKIN2/I2C2_SDA/SAI2_SD_B/FDCAN2_RX/ETH2_RGMII_GTX_CLK/ETH1_MDIO/FMC_A13/DCMIPP_D15/DCMIPP_D12, M3 PG11/SAI2_D3/I2S2_MCK/USART3_TX/UART4_TX/ETH2_MII_TXD1/ETH2_RGMII_TXD1/ETH2_RMII_TXD1/FMC_A24/DCMIPP_D14/LCD_B2, N2 PG1/LPTIM1_ETR/TIM4_ETR/SAI2_FS_A/I2C2_SMBA/SPI2_MISO/I2S2_SDI/SAI2_D2/FDCAN2_TX/ETH2_MII_TXD2/ETH2_RGMII_TXD2/FMC_NBL0/LCD_G7, P1 PH0-OSC_IN, P2 PH1-OSC_OUT, P8 PG13/LPTIM1_OUT/USART6_CTS/USART6_NSS/ETH1_MII_TXD0/ETH1_RGMII_TXD0/ETH1_RMII_TXD0/ADC2_INP6_INN2, P9 PG14/LPTIM1_ETR/SAI2_D1/USART6_TX/SAI2_SD_A/ETH1_MII_TXD1/ETH1_RGMII_TXD1/ETH1_RMII_TXD1, P12 PI5-BOOT1(BOOT1), R1 PG2/MCO2/TIM8_BKIN/SAI2_MCLK_B/ETH1_MDC/DCMIPP_D1, R2 PH3/I2C3_SCL/SPI5_MOSI/QUADSPI_BK2_IO1/ETH1_MII_COL/LCD_R5/ETH2_MII_COL/QUADSPI_BK1_IO0/LCD_B4, R12 PI6-BOOT2(BOOT2), R14 PH5/JTDO, T1 PG12/LPTIM1_IN1/SAI2_SCK_A/SAI2_CK2/USART6_RTS/USART6_DE/USART3_CTS/ETH2_PHY_INTN/ETH1_PHY_INTN/ETH2_MII_RX_DV/ETH2_RGMII_RX_CTL/ETH2_RMII_CRS_DV, T15 PH4/JTDI, U14 PI4-BOOT0(BOOT0), U16 PI7/OTG_HS_VBUS
part D pins: A1 VSS, A17 VSS, C8 VSS, C12 VDDSD1, D3 VSS, D11 VDDSD2, D12 VSS, E5 VSS, E12 VDDQ_DDR, F6 VDDCPU, F7 VDD, F8 VDDCPU, F9 VDDCPU, F10 VDD, F11 VDD, F12 VDDQ_DDR, F13 VSS, F15 VSS, G6 VDD, G7 VSS, G8 VSS, G9 VSS, G10 VSS, G11 VSS, G12 VDDQ_DDR, H6 VDDCPU, H7 VSS, H8 VDDCORE, H9 VDDCORE, H10 VDDCORE, H11 VSS, H12 VDDQ_DDR, H14 VSS, J2 VBAT, J4 VSS_PLL, J5 VDD_PLL, J6 VDDCPU, J7 VSS, J8 VDDCORE, J9 VSS, J10 VDDCORE, J11 VSS, J12 VDDQ_DDR, J13 VDDCORE, K3 VSS, K6 VDD, K7 VSS, K8 VDDCORE, K9 VDDCORE, K10 VDDCORE, K11 VSS, K12 VDDQ_DDR, L6 VDD, L7 VSS, L8 VSS, L9 VSS, L10 VSS, L11 VSS, L12 VDDQ_DDR, M4 VDD_ANA, M5 VSS_ANA, M6 VDD, M7 VDD, M8 VDD, M9 VDD, M10 VDD, M11 VDD, M12 VDDQ_DDR, M15 VSS, N4 VSS, N7 VSSA, N10 VSS_USBHS, N11 VDDA1V1_REG, N12 VDDQ_DDR, P6 VREF-, P7 VDDA, P10 VDD3V3_USBHS, P11 VSS, P13 VSS_PLL2, R5 VSS, R6 VREF+, R8 VSS, R9 VDD, R11 VDDA1V8_REG, R13 VDD_PLL2, U1 VSS, U17 VSS
part E pins: N9 NJTRST, N13 PWR_LP, P14 PWR_ON, R3 PWR_CPU_ON, T10 PDR_ON, T11 USB_DP2, T13 USB_DP1, T14 BYPASS_REG1V8, U10 NRST, U11 USB_DM2, U12 USB_RREF, U13 USB_DM1
part F pins: B16 DDR_DQ4, B17 DDR_DQ0, C15 DDR_DQ1, C16 DDR_DQS0N, C17 DDR_DQS0P, D15 DDR_DQM0, D16 DDR_DQ5, D17 DDR_DQ3, E13 DDR_DQ2, E14 DDR_DQ6, E15 DDR_DQ7, E16 DDR_A5, E17 DDR_RESETN, F14 DDR_A13, F16 DDR_A9, F17 DDR_A2, G13 DDR_BA2, G14 DDR_A7, G15 DDR_A3, G16 DDR_A0, G17 DDR_BA0, H13 DDR_WEN, H15 DDR_ODT, H16 DDR_CSN, H17 DDR_RASN, J14 DDR_A10, J15 DDR_CASN, J16 DDR_CLKP, J17 DDR_CLKN, K13 DDR_A11, K14 DDR_CKE, K15 DDR_A1, K16 DDR_A15, K17 DDR_A12, L13 DDR_ATO, L14 DDR_DTO0, L15 DDR_A8, L16 DDR_BA1, L17 DDR_A14, M13 DDR_VREF, M14 DDR_A4, M16 DDR_DTO1, M17 DDR_A6, N14 DDR_DQM1, N15 DDR_DQ10, N16 DDR_DQ8, N17 DDR_ZQ, P15 DDR_DQ11, P16 DDR_DQ13, P17 DDR_DQ9, R15 DDR_DQ12, R16 DDR_DQS1N, R17 DDR_DQS1P, T16 DDR_DQ15, T17 DDR_DQ14

## TEST
designator TP?, comment VDD_DDR
测试点; 版权归属: 正点原子; BOM名称: 测试点; 学习资源: www.openedv.com
footprint TEST 1 (测试点1mm)
pins: 1

## XTAL-2P
designator X?, comment 32.768KHz
2脚无源晶振; BOM名称: 2脚晶振; 版权归属: 正点原子; 学习资源: www.openedv.com
footprint XTAL-3215
pins: 1, 2

## XTAL-4P_S
designator X?, comment 24M
4脚有源晶振; BOM名称: 4脚晶振; 版权归属: 正点原子; 学习资源: www.openedv.com
footprint XTAL-3225 - S (3225有源晶振)
pins: 1 EN, 2 GND, 3 OUT, 4 VCC